# Altium footprint library HDRRA12W66P254_2X6_1524X254X508P.PcbLib: 1 footprints
Each footprint in its own frame and in the unit in brackets; x right, y up, seen from the top. Pads: shape width x height; smd on the part's side, far side on the other; paste and mask are expansions set on the pad; w line width, h text height; cw(c..) or ccw(c..) is an arc to the next point about the centre after c.
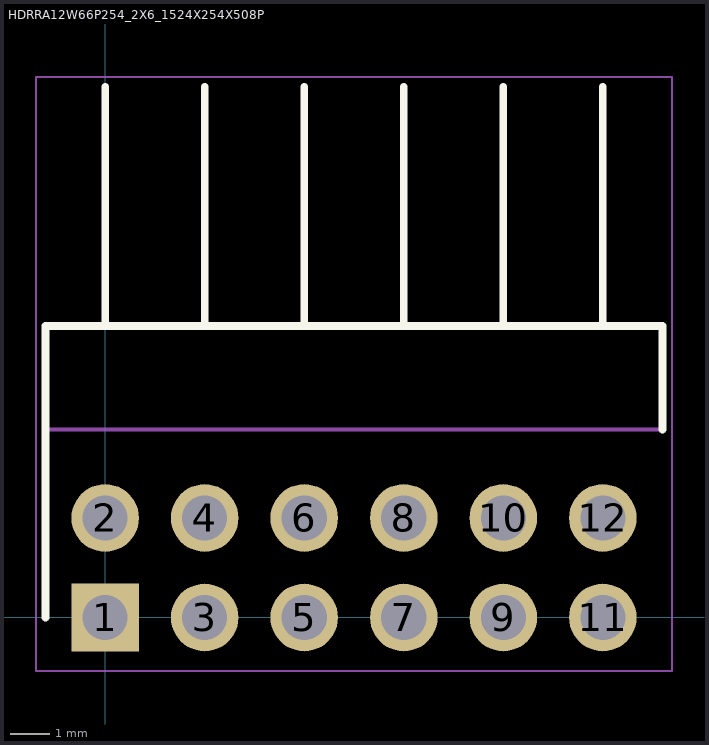
[diagram p0: the footprint, top view; thin cyan lines are the x and y axes]

## HDRRA12W66P254_2X6_1524X254X508P [mm]
pads (12):
  rect 1.725x1.725 / inner round 1.725 / far side rect 1.725x1.725 hole 1.15: 1(0,0)
  round 1.725 hole 1.15: 2(0,2.54) 3(2.54,0) 4(2.54,2.54) 5(5.08,0) 6(5.08,2.54) 7(7.62,0) 8(7.62,2.54) 9(10.16,0) 10(10.16,2.54) 11(12.7,0) 12(12.7,2.54)
Top Overlay:
  lines w0.2: -1.52,0 -1.52,7.44 14.22,7.44 14.22,4.8 ; 0,7.44 0,13.54 ; 2.54,7.44 2.54,13.54 ; 5.08,7.44 5.08,13.54 ; 7.62,7.44 7.62,13.54 ; 10.16,7.44 10.16,13.54 ; 12.7,7.44 12.7,13.54
Mechanical 15:
  lines w0.1: -1.52,4.8 14.22,4.8 14.22,7.44 -1.52,7.44 -1.52,4.8
Mechanical 20:
  lines w0.05: -1.77,-1.362 -1.77,13.79 14.47,13.79 14.47,-1.362 -1.77,-1.362
3D body "M20-9950645.stp": height 5.04, standoff -3.04, extent -1.27,-0.381 13.97,13.379